# EAGLE library part MCP47CVB28-E_ML (library MCP47CVB28-E_ML)
Digital to Analog Converters - DAC Qctal Channel, 12-Bi t, volatile, I2C DA Source: Datasheet <https://www.mouser.mx/datasheet/2/268/MCP47CXBX4_8_Data_Sheet_20006537B-2504519.pdf>
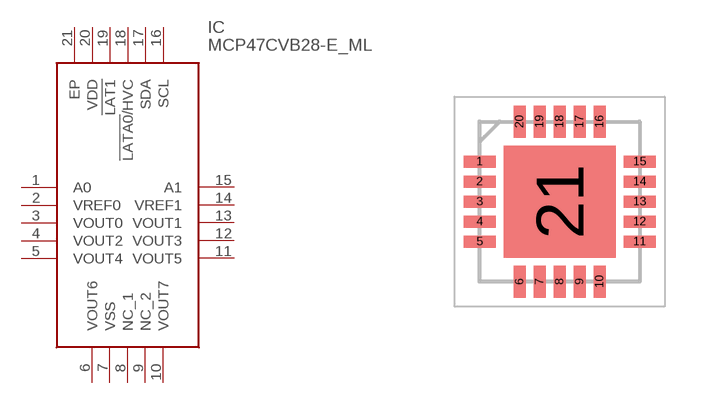
[diagram p0: symbol with the pads of QFN50P400X400X100-21N; footprint QFN50P400X400X100-21N]

Designator prefix IC

## MCP47CVB28-E_ML (Description: Digital to Analog Converters - DAC Qctal Channel, 12-Bi t, volatile, I2C DA; Height: 1mm; Manufacturer_Name: Microchip; Manufacturer_Part_Number: MCP47CVB28-E/ML)  [QFN50P400X400X100-21N]
1  A0
2  VREF0
3  VOUT0
4  VOUT2
5  VOUT4
6  VOUT6
7  VSS
8  NC_1
9  NC_2
10  VOUT7
11  VOUT5
12  VOUT3
13  VOUT1
14  VREF1
15  A1
16  SCL
17  SDA
18  !LATA0!/HVC
19  !LAT1
20  VDD
21  EP

## Footprint QFN50P400X400X100-21N (pad centres in mm)
20-Lead (ML) - 4x4x0.9 mm Body [QFN]
smd 0.8 x 0.3: 1 -2,1; 2 -2,0.5; 3 -2,0; 4 -2,-0.5; 5 -2,-1; 11 2,-1; 12 2,-0.5; 13 2,0; 14 2,0.5; 15 2,1
smd 0.3 x 0.8: 6 -1,-2; 7 -0.5,-2; 8 0,-2; 9 0.5,-2; 10 1,-2; 16 1,2; 17 0.5,2; 18 0,2; 19 -0.5,2; 20 -1,2
smd 2.8 x 2.8: 21 0,0